# Altium integrated library Rez_5.1K_0805.IntLib: 2 symbols
Pins are listed as number, name and electrical type; pins without a type are passive.

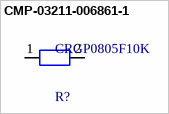
[diagram p0: symbol CMP-03211-006861-1]

## CMP-03211-006861-1
designator R?, comment CRGP0805F10K
CRGP 0805 10K 1%; Manufacturer: TE; Power Rating: 0.33W; Voltage Rating: 150V; Value: 10KΩ; Tolerance: 0.01; Temperature Coefficient: ±100ppm/°C; Manufacturer Part Number: CRGP0805F10K; ComponentLink2URL: https://www.mouser.com/datasheet/2/418/NG_DS_9-1773463-9_A-1358566.pdf; Temperature Range Low: -55°C; Ipc Land Pattern Name: RESC200125X55; Device Class L2: Resistors; Automotive: No; Device Class L3: Chip SMD Resistors; Composition: Thick Film; Temperature Range High: +155°C; Temperature: -55°C to +155°C; Height: 0.65mm; Series: CRGP; RoHS: TRUE; Device Class L1: Passive Components; Octopart: https://octopart.com/crgp0805f10k-te+connectivity-91018782; Package: CRGP0805; Digikey Description: CRGP 0805 10K 1%; Ambient Temperature Range High: +70°C; Lead Free: Yes; ComponentLink2Description: Datasheet; Category: Res; Resistance: 10KΩ
footprint FP-CRGP0805-IPC_A
footprint FP-CRGP0805-IPC_C
footprint FP-CRGP0805-IPC_B
pins: 1, 2


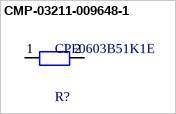
[diagram p1: symbol CMP-03211-009648-1]

## CMP-03211-009648-1
designator R?, comment CPF0603B51K1E
RES SMD 51.1KΩ 0.1% 1/16W 0603; Manufacturer: TE Connectivity; Voltage Rating: 50V; Power Rating: 0.063W; Temperature Coefficient: 25ppm/°C; Octopart: https://octopart.com/cpf0603b51k1e-te+connectivity-22739314; Package: CPF0603; Resistance: 51.1KΩ; ComponentLink2URL: https://www.te.com/commerce/DocumentDelivery/DDEController?Action=showdoc&DocId=Data+Sheet%7F1773200%7FM%7Fpdf%7FEnglish%7FENG_DS_1773200_M.pdf%7F3-1676481-2; Automotive: No; Lead Free: Yes; Temperature Range High: +155°C; Tolerance: 0.1%; Value: 51.1KΩ; octopart_url: https://octopart.com/cpf0603b51k1e-te+connectivity-22739314; Device Class L2: Resistors; Temperature Range Low: -55°C; Ipc Land Pattern Name: RESC15580X45; Device Class L1: Passive Components; Height: 0.55mm; Manufacturer Part Number: CPF0603B51K1E; Series: CPF; RoHS: TRUE; Composition: Thin Film; ComponentLink2Description: Datasheet; Device Class L3: Chip SMD Resistors; Temperature: -55°C to +155°C; Category: Res; packaging: 5k Reel
footprint FP-CPF0603-IPC_C
footprint FP-CPF0603-IPC_A
footprint FP-CPF0603-MFG
footprint FP-CPF0603-IPC_B
pins: 1, 2